# EAGLE library part 62131421021 (library Header_R_ESP32)
1.27mm SMT Straight Dual Pin Header WR-PHD 14POS Manufacturer's datasheet <https://katalog.we-online.com/em/datasheet/62131421021.pdf>
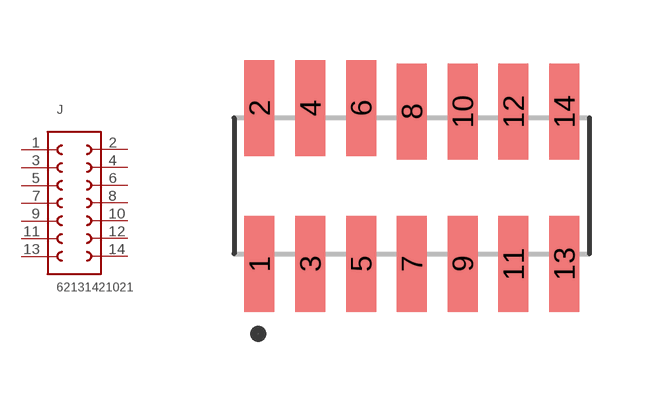
[diagram p38: symbol with the pads of 62131421021; footprint 62131421021]

Designator prefix J

## 62131421021 (CREATED_BY: PCBLayout.com; MANUFACTURER: WURTH ELEKTRONIK; MPN: 62131421021)  [62131421021]
1  1  pas
2  2  pas
3  3  pas
4  4  pas
5  5  pas
6  6  pas
7  7  pas
8  8  pas
9  9  pas
10  10  pas
11  11  pas
12  12  pas
13  13  pas
14  14  pas

## Footprint 62131421021 (pad centres in mm)
smd 0.75 x 2.4: 1 -3.81,-1.95; 2 -3.81,1.95; 3 -2.54,-1.95; 4 -2.54,1.95; 5 -1.27,-1.95; 6 -1.27,1.95; 7 0,-1.95; 8 0,1.86; 9 1.27,-1.95; 10 1.27,1.86; 11 2.54,-1.95; 12 2.54,1.86; 13 3.81,-1.95; 14 3.81,1.86